# Altium footprint library QUTMS_MUXLibrary.PcbLib: 1 footprints
Each footprint in its own frame and in the unit in brackets; x right, y up, seen from the top. Pads: shape width x height; smd on the part's side, far side on the other; paste and mask are expansions set on the pad; w line width, h text height; cw(c..) or ccw(c..) is an arc to the next point about the centre after c.
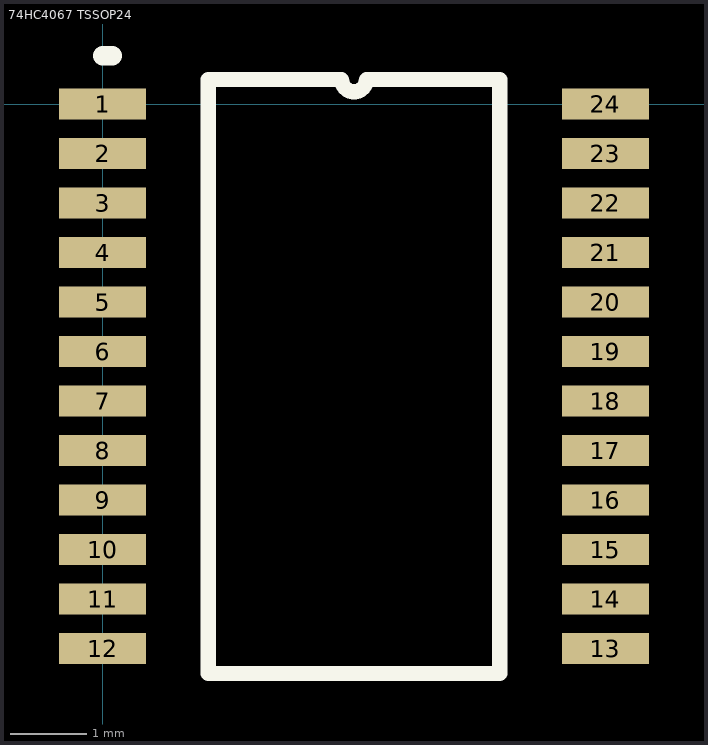
[diagram p0: the footprint, top view; thin cyan lines are the x and y axes]

## 74HC4067 TSSOP24 [mil]
pads (24):
  rect 45x16 smd: 1(0,0) 2(0,-25.59) 3(0,-51.18) 4(0,-76.77) 5(0,-102.36) 6(0,-127.95) 7(0,-153.54) 8(0,-179.13) 9(0,-204.72) 10(0,-230.32) 11(0,-255.91) 12(0,-281.5) 13(259.84,-281.5) 14(259.84,-255.91) 15(259.84,-230.32) 16(259.84,-204.72) 17(259.84,-179.13) 18(259.84,-153.54) 19(259.84,-127.95) 20(259.84,-102.36) 21(259.84,-76.77) 22(259.84,-51.18) 23(259.84,-25.59) 24(259.84,0)
Top Overlay:
  lines w7.87: 54.53,-294.29 205.31,-294.29 205.31,12.8 136.32,12.8 cw(c129.92,12.8) 123.52,12.8 54.53,12.8 54.53,-294.29
  lines w10: 0,25 5,25
3D body "SOT355-1.step": height 40.75, standoff 1.3, extent 3.6,-295 256.4,12.08